# Altium footprint library 4PIN_DIP14_IXYS.PcbLib: 1 footprints
Each footprint in its own frame and in the unit in brackets; x right, y up, seen from the top. Pads: shape width x height; smd on the part's side, far side on the other; paste and mask are expansions set on the pad; w line width, h text height; cw(c..) or ccw(c..) is an arc to the next point about the centre after c.
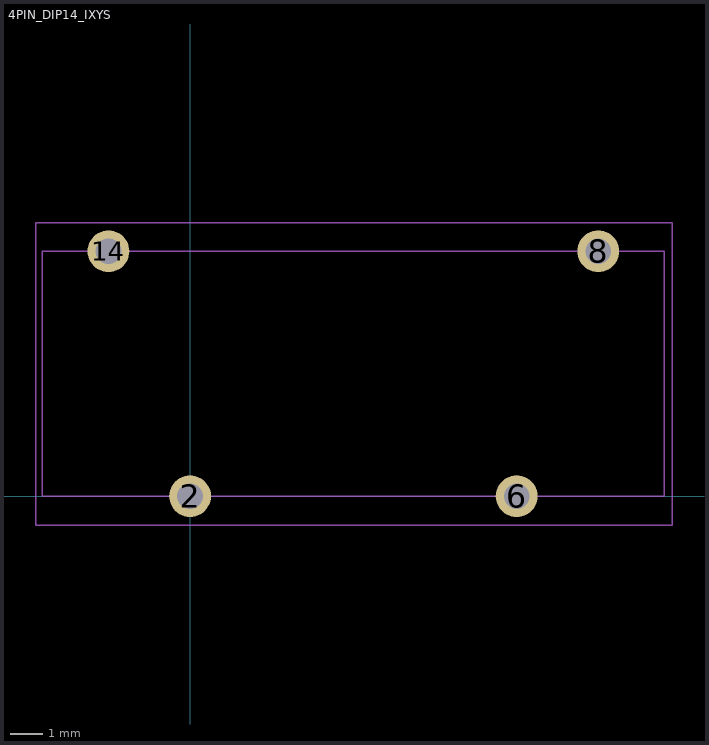
[diagram p0: the footprint, top view; thin cyan lines are the x and y axes]

## 4PIN_DIP14_IXYS [mm]
pads (4):
  round 1.3 hole 0.8: 2(0,0) 6(10.16,0) 8(12.7,7.62) 14(-2.54,7.62)
Top Assembly:
  lines w0.05: -4.6,0 14.75,0 14.75,7.62 -4.6,7.62 -4.6,0
Top Courtyard:
  lines w0.05: -4.8,-0.9 -4.8,8.5 15,8.5 15,-0.9 -4.8,-0.9
3D body "User Library-integrated circuit DIP14 v1.step": height 4.19, standoff -2.97, extent -4.57,0 14.73,7.62